# Altium schematic symbol library Detectors.SchLib: 5 symbols
Pins are listed as number, name and electrical type; pins without a type are passive.

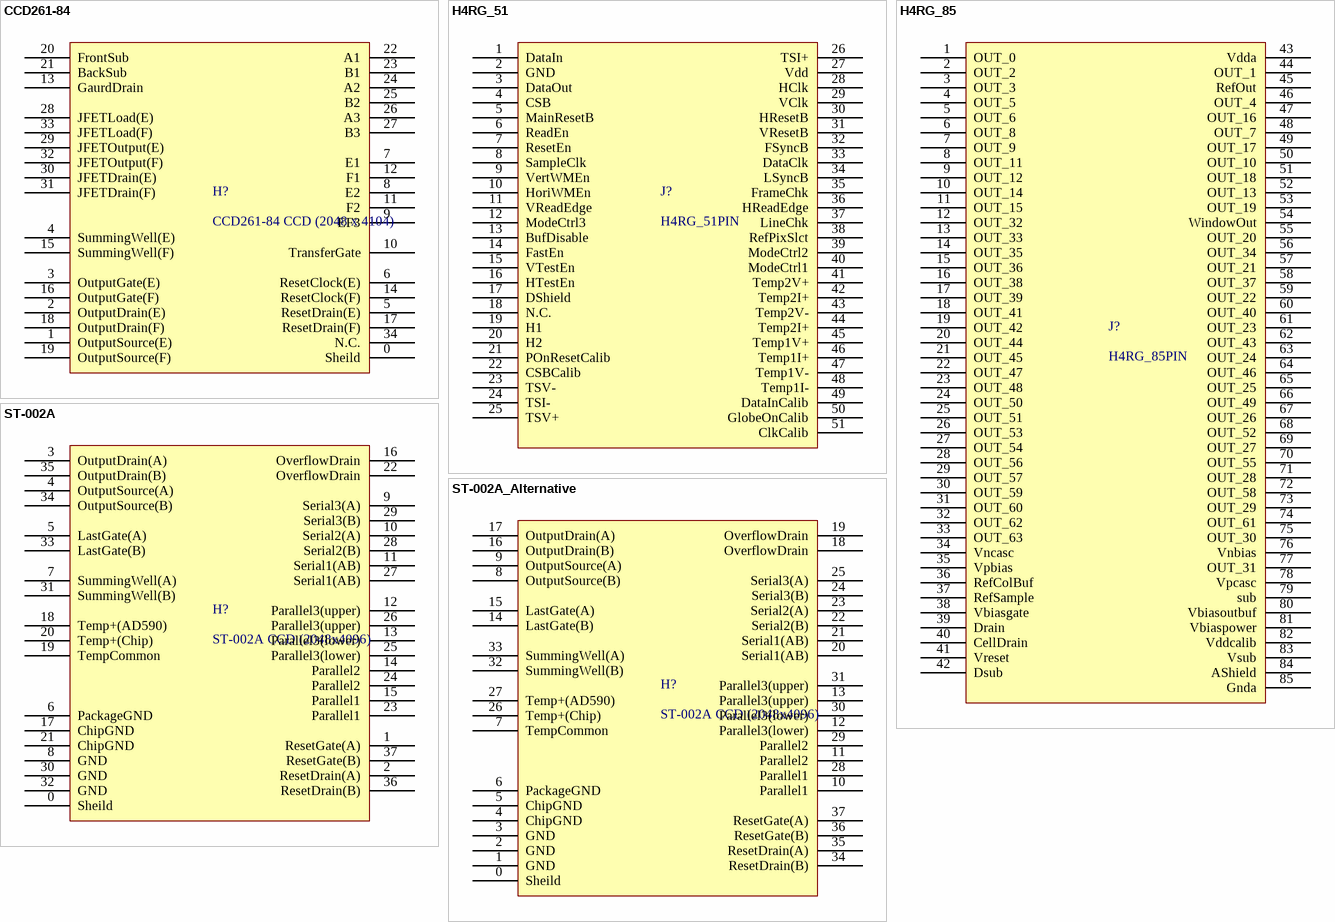
[diagram p0: symbols CCD261-84 to ST-002A_Alternative]

## CCD261-84
designator H?, comment CCD261-84 CCD (2048 x 4104)
footprint A28500-037 (Nano-d 37)
pins: 0 Sheild, 1 OutputSource(E), 2 OutputDrain(E), 3 OutputGate(E), 4 SummingWell(E), 5 ResetDrain(E), 6 ResetClock(E), 7 E1, 8 E2, 9 EF3, 10 TransferGate, 11 F2, 12 F1, 13 GaurdDrain "Gaurd Drain", 14 ResetClock(F), 15 SummingWell(F), 16 OutputGate(F), 17 ResetDrain(F), 18 OutputDrain(F), 19 OutputSource(F), 20 FrontSub "Front Substrate", 21 BackSub "Back Substrate", 22 A1 "Image Phase", 23 B1 "Image Phase", 24 A2 "Image Phase", 25 B2 "Image Phase", 26 A3 "Image Phase", 27 B3 "Image Phase", 28 JFETLoad(E), 29 JFETOutput(E), 30 JFETDrain(E), 31 JFETDrain(F), 32 JFETOutput(F), 33 JFETLoad(F), 34 N.C.

## H4RG_51
designator J?, comment H4RG_51PIN
footprint OMNETICSMICROD51S2M
pins: 1 DataIn, 2 GND, 3 DataOut, 4 CSB, 5 MainResetB, 6 ReadEn, 7 ResetEn, 8 SampleClk, 9 VertWMEn, 10 HoriWMEn, 11 VReadEdge, 12 ModeCtrl3, 13 BufDisable, 14 FastEn, 15 VTestEn, 16 HTestEn, 17 DShield, 18 N.C., 19 H1, 20 H2, 21 POnResetCalib, 22 CSBCalib, 23 TSV-, 24 TSI-, 25 TSV+, 26 TSI+, 27 Vdd, 28 HClk, 29 VClk, 30 HResetB, 31 VResetB, 32 FSyncB, 33 DataClk, 34 LSyncB, 35 FrameChk, 36 HReadEdge, 37 LineChk, 38 RefPixSlct, 39 ModeCtrl2, 40 ModeCtrl1, 41 Temp2V+, 42 Temp2I+, 43 Temp2V-, 44 Temp2I+, 45 Temp1V+, 46 Temp1I+, 47 Temp1V-, 48 Temp1I-, 49 DataInCalib, 50 GlobeOnCalib, 51 ClkCalib

## H4RG_85
designator J?, comment H4RG_85PIN
pins: 1 OUT_0, 2 OUT_2, 3 OUT_3, 4 OUT_5, 5 OUT_6, 6 OUT_8, 7 OUT_9, 8 OUT_11, 9 OUT_12, 10 OUT_14, 11 OUT_15, 12 OUT_32, 13 OUT_33, 14 OUT_35, 15 OUT_36, 16 OUT_38, 17 OUT_39, 18 OUT_41, 19 OUT_42, 20 OUT_44, 21 OUT_45, 22 OUT_47, 23 OUT_48, 24 OUT_50, 25 OUT_51, 26 OUT_53, 27 OUT_54, 28 OUT_56, 29 OUT_57, 30 OUT_59, 31 OUT_60, 32 OUT_62, 33 OUT_63, 34 Vncasc, 35 Vpbias, 36 RefColBuf, 37 RefSample, 38 Vbiasgate, 39 Drain, 40 CellDrain, 41 Vreset, 42 Dsub, 43 Vdda, 44 OUT_1, 45 RefOut, 46 OUT_4, 47 OUT_16, 48 OUT_7, 49 OUT_17, 50 OUT_10, 51 OUT_18, 52 OUT_13, 53 OUT_19, 54 WindowOut, 55 OUT_20, 56 OUT_34, 57 OUT_21, 58 OUT_37, 59 OUT_22, 60 OUT_40, 61 OUT_23, 62 OUT_43, 63 OUT_24, 64 OUT_46, 65 OUT_25, 66 OUT_49, 67 OUT_26, 68 OUT_52, 69 OUT_27, 70 OUT_55, 71 OUT_28, 72 OUT_58, 73 OUT_29, 74 OUT_61, 75 OUT_30, 76 Vnbias, 77 OUT_31, 78 Vpcasc, 79 sub, 80 Vbiasoutbuf, 81 Vbiaspower, 82 Vddcalib, 83 Vsub, 84 AShield, 85 Gnda

## ST-002A
designator H?, comment ST-002A CCD (2048x4096)
footprint A28500-037 (Nano-d 37)
pins: 0 Sheild, 1 ResetGate(A), 2 ResetDrain(A), 3 OutputDrain(A), 4 OutputSource(A), 5 LastGate(A), 6 PackageGND, 7 SummingWell(A), 8 GND, 9 Serial3(A), 10 Serial2(A), 11 Serial1(AB), 12 Parallel3(upper), 13 Parallel3(lower), 14 Parallel2, 15 Parallel1, 16 OverflowDrain, 17 ChipGND, 18 Temp+(AD590), 19 TempCommon, 20 Temp+(Chip), 21 ChipGND, 22 OverflowDrain, 23 Parallel1, 24 Parallel2, 25 Parallel3(lower), 26 Parallel3(upper), 27 Serial1(AB), 28 Serial2(B), 29 Serial3(B), 30 GND, 31 SummingWell(B), 32 GND, 33 LastGate(B), 34 OutputSource(B), 35 OutputDrain(B), 36 ResetDrain(B), 37 ResetGate(B)

## ST-002A_Alternative
designator H?, comment ST-002A CCD (2048x4096)
footprint A28500-037 (Nano-d 37)
pins: 0 Sheild, 1 GND, 2 GND, 3 GND, 4 ChipGND, 5 ChipGND, 6 PackageGND, 7 TempCommon, 8 OutputSource(B), 9 OutputSource(A), 10 Parallel1, 11 Parallel2, 12 Parallel3(lower), 13 Parallel3(upper), 14 LastGate(B), 15 LastGate(A), 16 OutputDrain(B), 17 OutputDrain(A), 18 OverflowDrain, 19 OverflowDrain, 20 Serial1(AB), 21 Serial1(AB), 22 Serial2(B), 23 Serial2(A), 24 Serial3(B), 25 Serial3(A), 26 Temp+(Chip), 27 Temp+(AD590), 28 Parallel1, 29 Parallel2, 30 Parallel3(lower), 31 Parallel3(upper), 32 SummingWell(B), 33 SummingWell(A), 34 ResetDrain(B), 35 ResetDrain(A), 36 ResetGate(B), 37 ResetGate(A)